# Altium footprint library PCBLibrary.PcbLib: 45 footprints (part 2 of 3)
Each footprint in its own frame and in the unit in brackets; x right, y up, seen from the top. Pads: shape width x height; smd on the part's side, far side on the other; paste and mask are expansions set on the pad; w line width, h text height; cw(c..) or ccw(c..) is an arc to the next point about the centre after c.
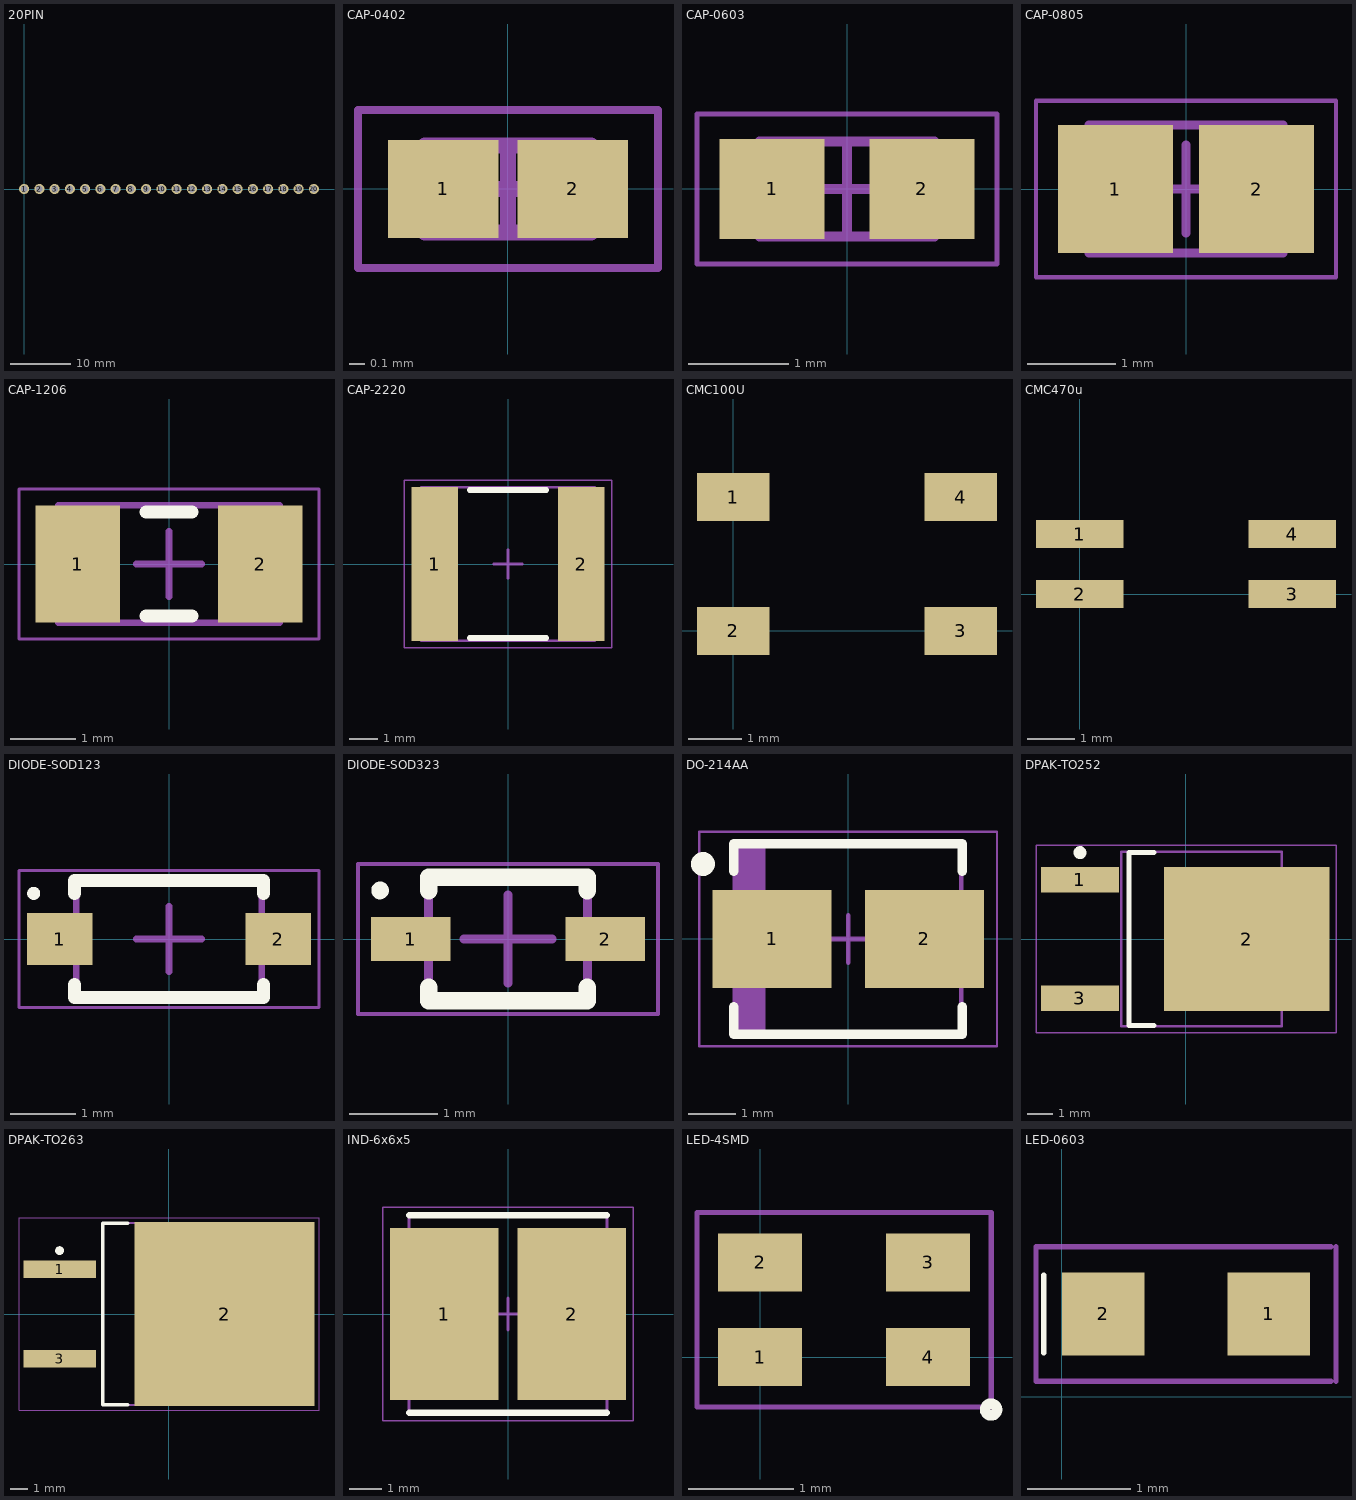
[diagram p1: the footprints below, top view; thin cyan lines are the x and y axes]

## 20PIN [mm]
pads (20):
  round 1.7 hole 1.11: 1(0,0) 2(2.54,0) 3(5.08,0) 4(7.62,0) 5(10.16,0) 6(12.7,0) 7(15.24,0) 8(17.78,0) 9(20.32,0) 10(22.86,0) 11(25.4,0) 12(27.94,0) 13(30.48,0) 14(33.02,0) 15(35.56,0) 16(38.1,0) 17(40.64,0) 18(43.18,0) 19(45.72,0) 20(48.26,0)
3D body "20PIN.stp": height 7.06, standoff -3.22, extent -2.54,-12.894 50.8,0.694

## CAP-0402 [mm] "Chip Capacitor, 2-Leads, Body 1.00x0.50mm, IPC Medium Density"
height 0.55
pads (2):
  rect 0.7x0.62 smd: 1(-0.41,0) 2(0.41,0)
Mechanical 13:
  lines w0.1: -0.525,-0.275 -0.525,0.275 0.525,0.275 0.525,-0.275 -0.525,-0.275
Mechanical 15:
  lines w0.05: -0.95,-0.5 -0.95,0.5 0.95,0.5 0.95,-0.5 -0.95,-0.5
  lines w0.1: -0.275,0 0.275,0 ; 0,-0.275 0,0.275
3D body "CAPC1005X06N.step": height 0.55, standoff 0, extent -0.525,-0.275 0.525,0.275

## CAP-0603 [mm] "Chip Capacitor, 2-Leads, Body 1.60x0.80mm, IPC Medium Density"
height 0.9
pads (2):
  rect 1.05x1 smd: 1(-0.75,0) 2(0.75,0)
Mechanical 13:
  lines w0.1: -0.875,-0.475 0.875,-0.475 0.875,0.475 -0.875,0.475 -0.875,-0.475
Mechanical 15:
  lines w0.05: -1.5,-0.75 1.5,-0.75 1.5,0.75 -1.5,0.75 -1.5,-0.75
  lines w0.1: -0.475,0 0.475,0 ; 0,-0.475 0,0.475
3D body "CAPC1608X09N.step": height 0.9, standoff 0, extent -0.875,-0.475 0.875,0.475

## CAP-0805 [mm] "Chip Capacitor, 2-Leads, Body 2.00x1.25mm, IPC Medium Density"
height 1.35
pads (2):
  rect 1.3x1.45 smd: 1(-0.8,0) 2(0.8,0)
Mechanical 13:
  lines w0.1: -1.1,-0.725 1.1,-0.725 1.1,0.725 -1.1,0.725 -1.1,-0.725
Mechanical 15:
  lines w0.05: -1.7,-1 1.7,-1 1.7,1 -1.7,1 -1.7,-1
  lines w0.1: -0.5,0 0.5,0 ; 0,-0.5 0,0.5
3D body "CAPC2012X14N.step": height 1.35, standoff 0, extent -1.1,-0.725 1.1,0.725

## CAP-1206 [mm] "Chip Capacitor, 2-Leads, Body 3.20x1.60mm, IPC Medium Density"
height 1.7
pads (2):
  rect 1.3x1.8 smd: 1(-1.4,0) 2(1.4,0)
Top Overlay:
  lines w0.2: -0.35,-0.8 0.35,-0.8 ; -0.35,0.8 0.35,0.8
Mechanical 13:
  lines w0.1: -1.7,-0.9 -1.7,0.9 1.7,0.9 1.7,-0.9 -1.7,-0.9
Mechanical 15:
  lines w0.05: -2.3,-1.15 -2.3,1.15 2.3,1.15 2.3,-1.15 -2.3,-1.15
  lines w0.1: -0.5,0 0.5,0 ; 0,-0.5 0,0.5
3D body "CAPC3216X17N.step": height 1.7, standoff 0, extent -1.7,-0.9 1.7,0.9

## CAP-2220 [mm] "Chip Capacitor, 2-Leads, Body 5.70x5.00mm, IPC Medium Density"
height 3.1
pads (2):
  rect 1.65x5.4 smd: 1(-2.575,0) 2(2.575,0)
Top Overlay:
  lines w0.2: -1.35,-2.6 1.35,-2.6 ; -1.35,2.6 1.35,2.6
Mechanical 13:
  lines w0.1: -3.05,-2.7 3.05,-2.7 3.05,2.7 -3.05,2.7 -3.05,-2.7
Mechanical 15:
  lines w0.05: -3.65,-2.95 3.65,-2.95 3.65,2.95 -3.65,2.95 -3.65,-2.95
  lines w0.1: -0.5,0 0.5,0 ; 0,-0.5 0,0.5
3D body "CAPC5750X31N.step": height 3.1, standoff 0, extent -3.05,-2.7 3.05,2.7

## CMC100U [mm]
pads (4):
  rect 1.35x0.9 smd: 1(0,2.5) 2(0,0) 3(4.25,0) 4(4.25,2.5)
3D body "act45b.step": height 2.8, standoff 0, extent -0.123,-0.372 4.377,2.828

## CMC470u [mm]
pads (4):
  rect 1.85x0.6 smd: 1(0,1.27) 2(0,0) 3(4.5,0) 4(4.5,1.27)
3D body "744242101_Download_STP_WE-SLM_rev1.stp": height 3.25, standoff 0, extent -0.75,-1.015 5.25,2.285

## DIODE-SOD123 [mm] "SODFL, 2-Leads, Body 1.60x3.70mm, IPC Medium Density"
height 1.35
pads (2):
  rect 1x0.8 smd: 1(-1.675,0) 2(1.675,0)
Top Overlay:
  circle w0.1: c-2.075,0.7 r0.05
  lines w0.2: -1.45,-0.7 -1.45,-0.9 1.45,-0.9 1.45,-0.7 ; -1.45,0.7 -1.45,0.9 1.45,0.9 1.45,0.7
Mechanical 13:
  lines w0.1: -1.425,-0.9 -1.425,0.9 1.425,0.9 1.425,-0.9 -1.425,-0.9
Mechanical 15:
  lines w0.05: -2.3,-1.05 -2.3,1.05 2.3,1.05 2.3,-1.05 -2.3,-1.05
  lines w0.1: -0.5,0 0.5,0 ; 0,-0.5 0,0.5
3D body "SODFL370X135-2N.step": height 1.35, standoff 0, extent -1.85,-0.9 1.85,0.9

## DIODE-SOD323 [mm] "SODFL, 2-Leads, Body 1.25x2.50mm, IPC Medium Density"
height 1.1
pads (2):
  rect 0.9x0.5 smd: 1(-1.1,0) 2(1.1,0)
Top Overlay:
  circle w0.1: c-1.45,0.55 r0.05
  lines w0.2: -0.9,-0.55 -0.9,-0.7 0.9,-0.7 0.9,-0.55 ; -0.9,0.55 -0.9,0.7 0.9,0.7 0.9,0.55
Mechanical 13:
  lines w0.1: -0.9,-0.675 -0.9,0.675 0.9,0.675 0.9,-0.675 -0.9,-0.675
Mechanical 15:
  lines w0.05: -1.7,-0.85 -1.7,0.85 1.7,0.85 1.7,-0.85 -1.7,-0.85
  lines w0.1: -0.5,0 0.5,0 ; 0,-0.5 0,0.5
3D body "SODFL250X110-2N.step": height 1.1, standoff 0, extent -1.25,-0.675 1.25,0.675

## DO-214AA [mm] "Molded Diode, 2-Leads, Body 4.40x3.62mm, IPC Medium Density"
height 2.41
pads (2):
  rect 2.5x2.05 smd: 1(-1.6,0) 2(1.6,0)
Top Overlay:
  circle w0.25: c-3.05,1.575 r0.125
  lines w0.2: -2.4,-1.425 -2.4,-2 2.4,-2 2.4,-1.425 ; -2.4,1.425 -2.4,2 2.4,2 2.4,1.425
Mechanical 13:
  rectangle: -2.375,-1.97 -1.736,1.97
  lines w0.1: -2.375,-1.97 -2.375,1.97 2.375,1.97 2.375,-1.97 -2.375,-1.97
Mechanical 15:
  lines w0.05: -3.125,-2.25 -3.125,2.25 3.125,2.25 3.125,-2.25 -3.125,-2.25
  lines w0.1: -0.5,0 0.5,0 ; 0,-0.5 0,0.5
3D body "DIOM4436X24N.step": height 2.41, standoff 0, extent -2.595,-1.97 2.595,1.97

## DPAK-TO252 [mm] "D-PAK, 3-Pads, Body 6.20x6.73mm (max), IPC Medium Density"
height 2.38
pads (3):
  rect 3x1 smd: 1(-4.1,2.29) 3(-4.1,-2.29)
  rect 6.4x5.55 smd: 2(2.35,0)
Top Overlay:
  circle w0.25: c-4.1,3.34 r0.125
  lines w0.2: -1.25,-3.35 -2.2,-3.35 -2.2,3.35 -1.25,3.35
Mechanical 13:
  lines w0.1: -2.5,-3.375 -2.5,3.375 3.7,3.375 3.7,-3.375 -2.5,-3.375
Mechanical 15:
  lines w0.05: -5.8,-3.625 -5.8,3.625 5.8,3.625 5.8,-3.625 -5.8,-3.625
  lines w0.1: -0.5,0 0.5,0 ; 0,-0.5 0,0.5
3D body "DPAK229P990X238-3N.step": height 2.38, standoff 0, extent -4.575,-3.375 5.325,3.375

## DPAK-TO263 [mm] "D2-PAK, 3-Pads, Body 8.00x8.51mm (max), IPC Medium Density"
height 4.5
pads (3):
  rect 4.1x1 smd: 1(-6.2,2.54) 3(-6.2,-2.54)
  rect 10.2x10.4 smd: 2(3.15,0)
Top Overlay:
  circle w0.25: c-6.2,3.59 r0.125
  lines w0.2: -2.35,-5.15 -3.75,-5.15 -3.75,5.15 -2.35,5.15
Mechanical 13:
  lines w0.1: -3.75,-5.15 -3.75,5.15 6.05,5.15 6.05,-5.15 -3.75,-5.15
Mechanical 15:
  lines w0.05: -8.5,-5.45 -8.5,5.45 8.5,5.45 8.5,-5.45 -8.5,-5.45
  lines w0.1: -0.5,0 0.5,0 ; 0,-0.5 0,0.5
3D body "DPAK254P1530X450-3N.step": height 4.5, standoff 0, extent -7.45,-5.15 7.85,5.15

## IND-6x6x5 [mm] "Precision Wire Wound Inductor, 2-Leads, Body 6.00x6.00mm, IPC Medium Density"
height 5
pads (2):
  rect 3.4x5.4 smd: 1(-2,0) 2(2,0)
Top Overlay:
  lines w0.2: -3.1,-3.1 3.1,-3.1 ; -3.1,3.1 3.1,3.1
Mechanical 13:
  lines w0.1: -3.1,-3.1 -3.1,3.1 3.1,3.1 3.1,-3.1 -3.1,-3.1
Mechanical 15:
  lines w0.05: -3.925,-3.35 -3.925,3.35 3.925,3.35 3.925,-3.35 -3.925,-3.35
  lines w0.1: -0.5,0 0.5,0 ; 0,-0.5 0,0.5
3D body "INDP6060X50N.step": height 5.1, standoff 0, extent -3.1,-3 3.1,3

## LED-4SMD [mm]
pads (4):
  rect 0.8x0.55 smd: 1(0,0) 2(0,0.9) 3(1.6,0.9) 4(1.6,0)
Top Overlay:
  circle w0.1: c2.2,-0.5 r0.056
Mechanical 15:
  lines w0.05: -0.6,-0.475 -0.6,1.375 2.2,1.375 2.2,-0.475 -0.6,-0.475
3D body "150060AS75000_STP_150060xS75000_rev1.stp": height 0.7, standoff 0, extent 0,-0.25 1.6,0.55
3D body "150060AS75000_STP_150060xS75000_rev1.stp": height 0.7, standoff 0, extent 0,0.375 1.6,1.175

## LED-0603 [mm]
pads (2):
  rect 0.8x0.8 smd: 1(2,0.8) 2(0.4,0.8)
Top Overlay:
  lines w0.05: -0.175,0.425 -0.175,1.175
Mechanical 15:
  lines w0.05: 2.6,0.15 -0.25,0.15 -0.25,1.45 2.6,1.45 ; 2.65,0.15 2.65,1.45
3D body "150060AS75000_STP_150060xS75000_rev1.stp": height 0.7, standoff 0, extent 0.4,0.4 2,1.2